# Altium footprint library INF-PG-TDSON-8.PcbLib: 1 footprints
Each footprint in its own frame and in the unit in brackets; x right, y up, seen from the top. Pads: shape width x height; smd on the part's side, far side on the other; paste and mask are expansions set on the pad; w line width, h text height; cw(c..) or ccw(c..) is an arc to the next point about the centre after c.
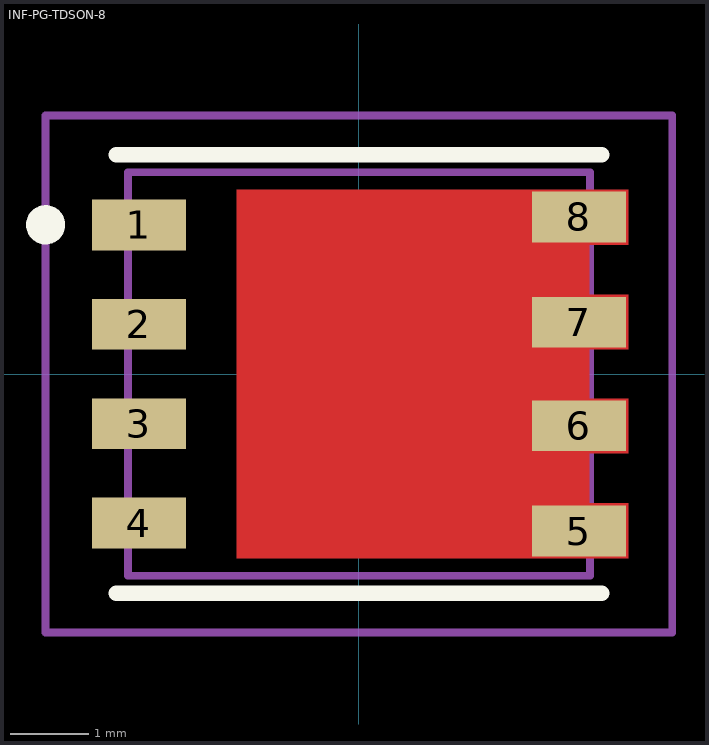
[diagram p0: the footprint, top view; thin cyan lines are the x and y axes]

## INF-PG-TDSON-8 [mm] "TDSON 8, 1.27mm pitch; 8 pin,5.15 mm W X 5.9 mm L X 1.10 mm H body"
height 1.1
pads (8):
  rect 1.2x0.65 smd paste+0 mask+0: 1(-2.809,1.905) 2(-2.809,0.635) 3(-2.809,-0.635) 4(-2.809,-1.905) 5(2.81,-2.007) 6(2.81,-0.66) 7(2.81,0.66) 8(2.81,2.007)
Top Layer:
  region: 2.941,-0.315 2.941,-1.015 3.441,-1.015 3.441,-0.315
  region: 2.941,1.015 2.941,0.315 3.441,0.315 3.441,1.015
  region: 2.941,-1.65 2.941,-2.35 3.441,-2.35 3.441,-1.65
  region: 2.941,2.35 2.941,1.65 3.441,1.65 3.441,2.35
  region: 2.941,2.35 -1.559,2.35 -1.559,-2.35 2.941,-2.35
Top Overlay:
  circle w0.25: c-4,1.905 r0.125
  lines w0.2: -3.1,-2.8 3.1,-2.8 ; -3.1,2.8 3.1,2.8
M3 (ASY_Text_Top):
  text ".DESIGNATOR" at 0,0 h1.2
M13 (CMP_Body_OTL_Top):
  lines w0.1: -2.95,-2.575 2.95,-2.575 2.95,2.575 -2.95,2.575 -2.95,-2.575
M15 (CMP_Courtyard_Top):
  lines w0.1: -0.5,0 0.5,0 ; 0,-0.5 0,0.5 ; -4,-3.3 4,-3.3 4,3.3 -4,3.3 -4,-3.3
3D body "PG-TDSON-8-1_C63078-A6557-C001-10-0004.stp": height 1.01, standoff 0, extent -3.075,-2.695 3.075,2.695